# Altium integrated library TI Memory EPROM.IntLib: 21 symbols
Pins are listed as number, name and electrical type; pins without a type are passive.

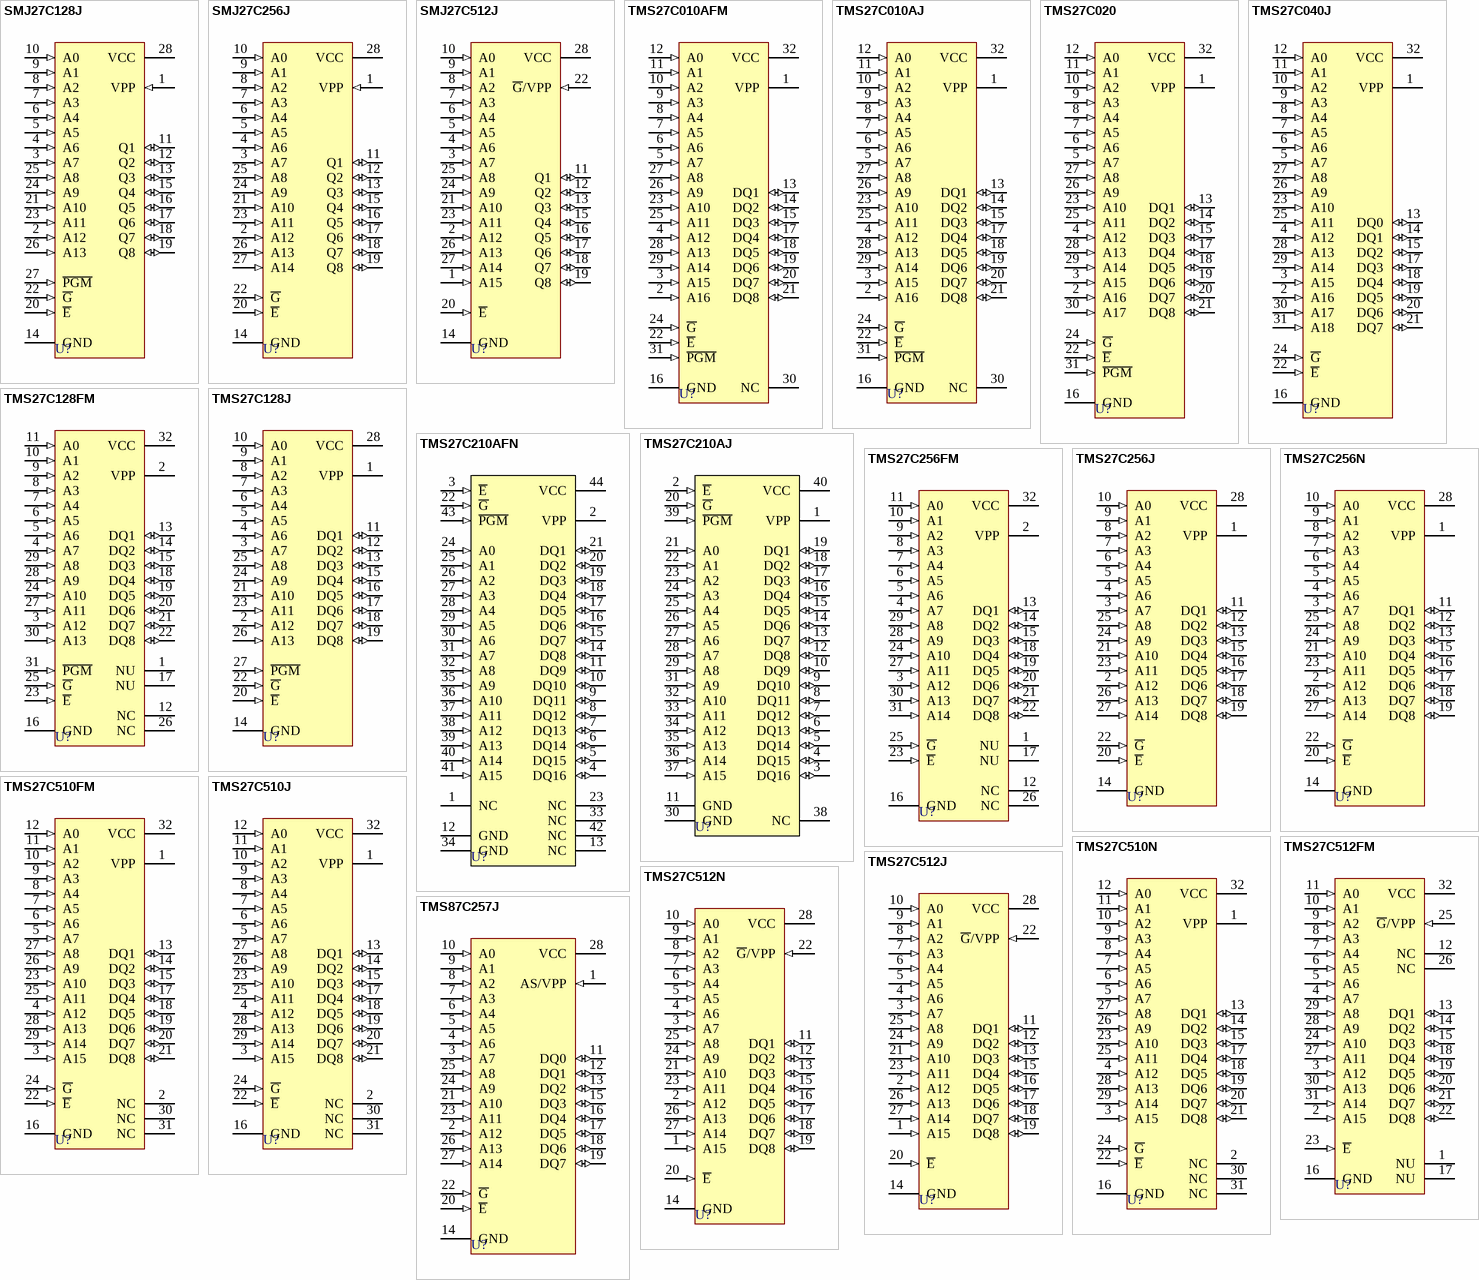
[diagram p0: symbols SMJ27C128J to TMS87C257J]

## SMJ27C128J
designator U?
131 072-Bit UV EPROM; Published: 15-Apr-2002; LatestRevisionDate: 08-Jul-2005; LatestRevisionNote: Stylized 3D Model Added.; DatasheetVersion: Jan-1991; PackageVersion: Nov-1997; PackageReference: J028; Publisher: Altium Limited; PackageDescription: DIP; 28 Leads; Row Spacing 15.24 mm; Pitch 2.54 mm; ComponentLink1Description: Manufacturer Link; ComponentLink1URL: http://www.ti.com/
footprint J028 (DIP; 28 Leads; Row Spacing 15.24 mm; Pitch 2.54 mm)
3D model J028 (DIP; 28 Leads; Row Spacing 15.24 mm; Pitch 2.54 mm)
pins: 1 VPP (in), 2 A12 (in), 3 A7 (in), 4 A6 (in), 5 A5 (in), 6 A4 (in), 7 A3 (in), 8 A2 (in), 9 A1 (in), 10 A0 (in), 11 Q1 (io), 12 Q2 (io), 13 Q3 (io), 14 GND (power), 15 Q4 (io), 16 Q5 (io), 17 Q6 (io), 18 Q7 (io), 19 Q8 (io), 20 ~{E} (in), 21 A10 (in), 22 ~{G} (in), 23 A11 (in), 24 A9 (in), 25 A8 (in), 26 A13 (in), 27 ~{PGM} (in), 28 VCC (power)

## SMJ27C256J
designator U?
262 144-Bit UV EPROM; Published: 15-Apr-2002; LatestRevisionDate: 08-Jul-2005; LatestRevisionNote: Stylized 3D Model Added.; DatasheetVersion: Jan-1991; PackageVersion: Nov-1997; PackageReference: J028; Publisher: Altium Limited; PackageDescription: DIP; 28 Leads; Row Spacing 15.24 mm; Pitch 2.54 mm; ComponentLink1Description: Manufacturer Link; ComponentLink1URL: http://www.ti.com/
footprint J028 (DIP; 28 Leads; Row Spacing 15.24 mm; Pitch 2.54 mm)
3D model J028 (DIP; 28 Leads; Row Spacing 15.24 mm; Pitch 2.54 mm)
pins: 1 VPP (in), 2 A12 (in), 3 A7 (in), 4 A6 (in), 5 A5 (in), 6 A4 (in), 7 A3 (in), 8 A2 (in), 9 A1 (in), 10 A0 (in), 11 Q1 (io), 12 Q2 (io), 13 Q3 (io), 14 GND (power), 15 Q4 (io), 16 Q5 (io), 17 Q6 (io), 18 Q7 (io), 19 Q8 (io), 20 ~{E} (in), 21 A10 (in), 22 ~{G} (in), 23 A11 (in), 24 A9 (in), 25 A8 (in), 26 A13 (in), 27 A14 (in), 28 VCC (power)

## SMJ27C512J
designator U?
524 288-Bit UV EPROM; Published: 15-Apr-2002; LatestRevisionDate: 08-Jul-2005; LatestRevisionNote: Stylized 3D Model Added.; DatasheetVersion: Jan-1991; PackageVersion: Nov-1997; PackageReference: J028; Publisher: Altium Limited; PackageDescription: DIP; 28 Leads; Row Spacing 15.24 mm; Pitch 2.54 mm; ComponentLink1Description: Manufacturer Link; ComponentLink1URL: http://www.ti.com/
footprint J028 (DIP; 28 Leads; Row Spacing 15.24 mm; Pitch 2.54 mm)
3D model J028 (DIP; 28 Leads; Row Spacing 15.24 mm; Pitch 2.54 mm)
pins: 1 A15 (in), 2 A12 (in), 3 A7 (in), 4 A6 (in), 5 A5 (in), 6 A4 (in), 7 A3 (in), 8 A2 (in), 9 A1 (in), 10 A0 (in), 11 Q1 (io), 12 Q2 (io), 13 Q3 (io), 14 GND (power), 15 Q4 (io), 16 Q5 (io), 17 Q6 (io), 18 Q7 (io), 19 Q8 (io), 20 ~{E} (in), 21 A10 (in), 22 ~{G}/VPP (in), 23 A11 (in), 24 A9 (in), 25 A8 (in), 26 A13 (in), 27 A14 (in), 28 VCC (power)

## TMS27C010AFM
designator U?
1 048 576-Bit UV EPROM; Published: 15-Apr-2002; LatestRevisionDate: 08-Jul-2005; LatestRevisionNote: Stylized 3D Model Added.; DatasheetVersion: Nov-1990; PackageVersion: 1991; PackageReference: FM32; Publisher: Altium Limited; PackageDescription: Leaded Chip Carrier; 32 Leads; Body 11.4 x 14 mm; ComponentLink1Description: Manufacturer Link; ComponentLink1URL: http://www.ti.com/
footprint FM32 (Leaded Chip Carrier; 32 Leads; Body 11.4 x 14 mm)
3D model TMS27C010A-FM32 (Leaded Chip Carrier; 32 Leads; Body 11.4 x 14 mm)
pins: 1 VPP (power), 2 A16 (in), 3 A15 (in), 4 A12 (in), 5 A7 (in), 6 A6 (in), 7 A5 (in), 8 A4 (in), 9 A3 (in), 10 A2 (in), 11 A1 (in), 12 A0 (in), 13 DQ1 (io), 14 DQ2 (io), 15 DQ3 (io), 16 GND (power), 17 DQ4 (io), 18 DQ5 (io), 19 DQ6 (io), 20 DQ7 (io), 21 DQ8 (io), 22 ~{E} (in), 23 A10 (in), 24 ~{G} (in), 25 A11 (in), 26 A9 (in), 27 A8 (in), 28 A13 (in), 29 A14 (in), 30 NC, 31 ~{PGM} (in), 32 VCC (power)

## TMS27C010AJ
designator U?
1 048 576-Bit UV EPROM; Published: 15-Apr-2002; LatestRevisionDate: 08-Jul-2005; LatestRevisionNote: Stylized 3D Model Added.; DatasheetVersion: Nov-1990; PackageVersion: Nov-1997; PackageReference: J032; Publisher: Altium Limited; PackageDescription: DIP; 32 Leads; Row Spacing 15.24 mm; Pitch 2.54 mm; ComponentLink1Description: Manufacturer Link; ComponentLink1URL: http://www.ti.com/
footprint J032 (DIP; 32 Leads; Row Spacing 15.24 mm; Pitch 2.54 mm)
3D model J032 (DIP; 32 Leads; Row Spacing 15.24 mm; Pitch 2.54 mm)
pins: 1 VPP (power), 2 A16 (in), 3 A15 (in), 4 A12 (in), 5 A7 (in), 6 A6 (in), 7 A5 (in), 8 A4 (in), 9 A3 (in), 10 A2 (in), 11 A1 (in), 12 A0 (in), 13 DQ1 (io), 14 DQ2 (io), 15 DQ3 (io), 16 GND (power), 17 DQ4 (io), 18 DQ5 (io), 19 DQ6 (io), 20 DQ7 (io), 21 DQ8 (io), 22 ~{E} (in), 23 A10 (in), 24 ~{G} (in), 25 A11 (in), 26 A9 (in), 27 A8 (in), 28 A13 (in), 29 A14 (in), 30 NC, 31 ~{PGM} (in), 32 VCC (power)

## TMS27C020
designator U?
2 097 152-Bit UV EPROM; Published: 15-Apr-2002; LatestRevisionDate: 08-Jul-2005; LatestRevisionNote: Stylized 3D Model Added.; DatasheetVersion: Nov-1990; PackageVersion: Nov-1997; PackageReference: J032; Publisher: Altium Limited; PackageDescription: DIP; 32 Leads; Row Spacing 15.24 mm; Pitch 2.54 mm; ComponentLink1Description: Manufacturer Link; ComponentLink1URL: http://www.ti.com/
footprint J032 (DIP; 32 Leads; Row Spacing 15.24 mm; Pitch 2.54 mm)
3D model J032 (DIP; 32 Leads; Row Spacing 15.24 mm; Pitch 2.54 mm)
pins: 1 VPP (power), 2 A16 (in), 3 A15 (in), 4 A12 (in), 5 A7 (in), 6 A6 (in), 7 A5 (in), 8 A4 (in), 9 A3 (in), 10 A2 (in), 11 A1 (in), 12 A0 (in), 13 DQ1 (io), 14 DQ2 (io), 15 DQ3 (io), 16 GND (power), 17 DQ4 (io), 18 DQ5 (io), 19 DQ6 (io), 20 DQ7 (io), 21 DQ8 (io), 22 ~{E} (in), 23 A10 (in), 24 ~{G} (in), 25 A11 (in), 26 A9 (in), 27 A8 (in), 28 A13 (in), 29 A14 (in), 30 A17 (in), 31 ~{PGM} (in), 32 VCC (power)

## TMS27C040J
designator U?
4 194 304-Bit UV EPROM; Published: 15-Apr-2002; LatestRevisionDate: 08-Jul-2005; LatestRevisionNote: Stylized 3D Model Added.; DatasheetVersion: Nov-1990; PackageVersion: Nov-1997; PackageReference: J032; Publisher: Altium Limited; PackageDescription: DIP; 32 Leads; Row Spacing 15.24 mm; Pitch 2.54 mm; ComponentLink1Description: Manufacturer Link; ComponentLink1URL: http://www.ti.com/
footprint J032 (DIP; 32 Leads; Row Spacing 15.24 mm; Pitch 2.54 mm)
3D model J032 (DIP; 32 Leads; Row Spacing 15.24 mm; Pitch 2.54 mm)
pins: 1 VPP (power), 2 A16 (in), 3 A15 (in), 4 A12 (in), 5 A7 (in), 6 A6 (in), 7 A5 (in), 8 A4 (in), 9 A3 (in), 10 A2 (in), 11 A1 (in), 12 A0 (in), 13 DQ0 (io), 14 DQ1 (io), 15 DQ2 (io), 16 GND (power), 17 DQ3 (io), 18 DQ4 (io), 19 DQ5 (io), 20 DQ6 (io), 21 DQ7 (io), 22 ~{E} (in), 23 A10 (in), 24 ~{G} (in), 25 A11 (in), 26 A9 (in), 27 A8 (in), 28 A13 (in), 29 A14 (in), 30 A17 (in), 31 A18 (in), 32 VCC (power)

## TMS27C128FM
designator U?
131 072-Bit UV EPROM; Note: Pins 1 & 17 should not make any external connection; Published: 15-Apr-2002; LatestRevisionDate: 08-Jul-2005; LatestRevisionNote: Stylized 3D Model Added.; DatasheetVersion: Jan-1991; PackageVersion: 1991; PackageReference: FM32; Publisher: Altium Limited; PackageDescription: Leaded Chip Carrier; 32 Leads; Body 11.4 x 14 mm; ComponentLink1Description: Manufacturer Link; ComponentLink1URL: http://www.ti.com/
footprint FM32 (Leaded Chip Carrier; 32 Leads; Body 11.4 x 14 mm)
3D model TMS27C128-FM32 (Leaded Chip Carrier; 32 Leads; Body 11.4 x 14 mm)
pins: 1 NU, 2 VPP (power), 3 A12 (in), 4 A7 (in), 5 A6 (in), 6 A5 (in), 7 A4 (in), 8 A3 (in), 9 A2 (in), 10 A1 (in), 11 A0 (in), 12 NC, 13 DQ1 (io), 14 DQ2 (io), 15 DQ3 (io), 16 GND (power), 17 NU, 18 DQ4 (io), 19 DQ5 (io), 20 DQ6 (io), 21 DQ7 (io), 22 DQ8 (io), 23 ~{E} (in), 24 A10 (in), 25 ~{G} (in), 26 NC, 27 A11 (in), 28 A9 (in), 29 A8 (in), 30 A13 (in), 31 ~{PGM} (in), 32 VCC (power)

## TMS27C128J
designator U?
131 072-Bit UV EPROM; Published: 15-Apr-2002; LatestRevisionDate: 08-Jul-2005; LatestRevisionNote: Stylized 3D Model Added.; DatasheetVersion: Jan-1991; PackageVersion: Nov-1997; PackageReference: J028; Publisher: Altium Limited; PackageDescription: DIP; 28 Leads; Row Spacing 15.24 mm; Pitch 2.54 mm; ComponentLink1Description: Manufacturer Link; ComponentLink1URL: http://www.ti.com/
footprint J028 (DIP; 28 Leads; Row Spacing 15.24 mm; Pitch 2.54 mm)
3D model J028 (DIP; 28 Leads; Row Spacing 15.24 mm; Pitch 2.54 mm)
pins: 1 VPP (power), 2 A12 (in), 3 A7 (in), 4 A6 (in), 5 A5 (in), 6 A4 (in), 7 A3 (in), 8 A2 (in), 9 A1 (in), 10 A0 (in), 11 DQ1 (io), 12 DQ2 (io), 13 DQ3 (io), 14 GND (power), 15 DQ4 (io), 16 DQ5 (io), 17 DQ6 (io), 18 DQ7 (io), 19 DQ8 (io), 20 ~{E} (in), 21 A10 (in), 22 ~{G} (in), 23 A11 (in), 24 A9 (in), 25 A8 (in), 26 A13 (in), 27 ~{PGM} (in), 28 VCC (power)

## TMS27C210AFN
designator U?
1 048 576-Bit UV EPROM; Published: 15-Apr-2002; LatestRevisionDate: 13-Apr-2006; LatestRevisionNote: IPC-7351 Footprint Added.; DatasheetVersion: Nov-1990; PackageVersion: Oct-1994; PackageReference: FN044; Publisher: Altium Limited; PackageDescription: 44-Pin Leaded Chip Carrier 1.27 mm Pitch; Code_IPC: PLCC-44; ComponentLink1Description: Manufacturer Link; ComponentLink1URL: http://www.ti.com/
footprint FN044_N (Leaded Chip Carrier, 44-Leads, Body 16.6x16.6mm, Pitch 1.27mm, IPC Medium Density)
footprint FN044_L (Leaded Chip Carrier, 44-Leads, Body 16.6x16.6mm, Pitch 1.27mm, IPC High Density)
footprint FN044_M (Leaded Chip Carrier, 44-Leads, Body 16.6x16.6mm, Pitch 1.27mm, IPC Low Density)
3D model TMS27C210A-FN044 (44-Pin Leaded Chip Carrier 1.27 mm Pitch)
pins: 1 NC, 2 VPP (power), 3 ~{E} (in), 4 DQ16 (io), 5 DQ15 (io), 6 DQ14 (io), 7 DQ13 (io), 8 DQ12 (io), 9 DQ11 (io), 10 DQ10 (io), 11 DQ9 (io), 12 GND (power), 13 NC, 14 DQ8 (io), 15 DQ7 (io), 16 DQ6 (io), 17 DQ5 (io), 18 DQ4 (io), 19 DQ3 (io), 20 DQ2 (io), 21 DQ1 (io), 22 ~{G} (in), 23 NC, 24 A0 (in), 25 A1 (in), 26 A2 (in), 27 A3 (in), 28 A4 (in), 29 A5 (in), 30 A6 (in), 31 A7 (in), 32 A8 (in), 33 NC, 34 GND (power), 35 A9 (in), 36 A10 (in), 37 A11 (in), 38 A12 (in), 39 A13 (in), 40 A14 (in), 41 A15 (in), 42 NC, 43 ~{PGM} (in), 44 VCC (power)

## TMS27C210AJ
designator U?
1 048 576-Bit UV EPROM; Note: Pins 11 & 30 should be connected externally to ground.; Published: 15-Apr-2002; LatestRevisionDate: 08-Jul-2005; LatestRevisionNote: Stylized 3D Model Added.; DatasheetVersion: Nov-1990; PackageVersion: Nov-1997; PackageReference: J040; Publisher: Altium Limited; PackageDescription: DIP; 40 Leads; Row Spacing 15.24 mm; Pitch 2.54 mm; ComponentLink1Description: Manufacturer Link; ComponentLink1URL: http://www.ti.com/
footprint J040 (DIP; 40 Leads; Row Spacing 15.24 mm; Pitch 2.54 mm)
3D model J040 (DIP; 40 Leads; Row Spacing 15.24 mm; Pitch 2.54 mm)
pins: 1 VPP (power), 2 ~{E} (in), 3 DQ16 (io), 4 DQ15 (io), 5 DQ14 (io), 6 DQ13 (io), 7 DQ12 (io), 8 DQ11 (io), 9 DQ10 (io), 10 DQ9 (io), 11 GND (power), 12 DQ8 (io), 13 DQ7 (io), 14 DQ6 (io), 15 DQ5 (io), 16 DQ4 (io), 17 DQ3 (io), 18 DQ2 (io), 19 DQ1 (io), 20 ~{G} (in), 21 A0 (in), 22 A1 (in), 23 A2 (in), 24 A3 (in), 25 A4 (in), 26 A5 (in), 27 A6 (in), 28 A7 (in), 29 A8 (in), 30 GND (power), 31 A9 (in), 32 A10 (in), 33 A11 (in), 34 A12 (in), 35 A13 (in), 36 A14 (in), 37 A15 (in), 38 NC, 39 ~{PGM} (in), 40 VCC (power)

## TMS27C256FM
designator U?
262 144-Bit UV EPROM; Note: Pins 1 & 17 should not make any external connection; Published: 15-Apr-2002; LatestRevisionDate: 08-Jul-2005; LatestRevisionNote: Stylized 3D Model Added.; DatasheetVersion: Jan-1991; PackageVersion: 1991; PackageReference: FM32; Publisher: Altium Limited; PackageDescription: Leaded Chip Carrier; 32 Leads; Body 11.4 x 14 mm; ComponentLink1Description: Manufacturer Link; ComponentLink1URL: http://www.ti.com/
footprint FM32 (Leaded Chip Carrier; 32 Leads; Body 11.4 x 14 mm)
3D model TMS27C256-FM32 (Leaded Chip Carrier; 32 Leads; Body 11.4 x 14 mm)
pins: 1 NU, 2 VPP (power), 3 A12 (in), 4 A7 (in), 5 A6 (in), 6 A5 (in), 7 A4 (in), 8 A3 (in), 9 A2 (in), 10 A1 (in), 11 A0 (in), 12 NC, 13 DQ1 (io), 14 DQ2 (io), 15 DQ3 (io), 16 GND (power), 17 NU, 18 DQ4 (io), 19 DQ5 (io), 20 DQ6 (io), 21 DQ7 (io), 22 DQ8 (io), 23 ~{E} (in), 24 A10 (in), 25 ~{G} (in), 26 NC, 27 A11 (in), 28 A9 (in), 29 A8 (in), 30 A13 (in), 31 A14 (in), 32 VCC (power)

## TMS27C256J
designator U?
262 144-Bit UV EPROM; Published: 15-Apr-2002; LatestRevisionDate: 08-Jul-2005; LatestRevisionNote: Stylized 3D Model Added.; DatasheetVersion: Jan-1991; PackageVersion: Nov-1997; PackageReference: J028; Publisher: Altium Limited; PackageDescription: DIP; 28 Leads; Row Spacing 15.24 mm; Pitch 2.54 mm; ComponentLink1Description: Manufacturer Link; ComponentLink1URL: http://www.ti.com/
footprint J028 (DIP; 28 Leads; Row Spacing 15.24 mm; Pitch 2.54 mm)
3D model J028 (DIP; 28 Leads; Row Spacing 15.24 mm; Pitch 2.54 mm)
pins: 1 VPP (power), 2 A12 (in), 3 A7 (in), 4 A6 (in), 5 A5 (in), 6 A4 (in), 7 A3 (in), 8 A2 (in), 9 A1 (in), 10 A0 (in), 11 DQ1 (io), 12 DQ2 (io), 13 DQ3 (io), 14 GND (power), 15 DQ4 (io), 16 DQ5 (io), 17 DQ6 (io), 18 DQ7 (io), 19 DQ8 (io), 20 ~{E} (in), 21 A10 (in), 22 ~{G} (in), 23 A11 (in), 24 A9 (in), 25 A8 (in), 26 A13 (in), 27 A14 (in), 28 VCC (power)

## TMS27C256N
designator U?
262 144-Bit UV EPROM; Published: 15-Apr-2002; LatestRevisionDate: 08-Jul-2005; LatestRevisionNote: Stylized 3D Model Added.; DatasheetVersion: Jan-1991; PackageVersion: Oct-1994; PackageReference: N028; Publisher: Altium Limited; PackageDescription: DIP; 28 Leads; Row Spacing 15.24 mm; Pitch 2.54 mm; ComponentLink1Description: Manufacturer Link; ComponentLink1URL: http://www.ti.com/
footprint N028 (DIP; 28 Leads; Row Spacing 15.24 mm; Pitch 2.54 mm)
3D model N028 (DIP; 28 Leads; Row Spacing 15.24 mm; Pitch 2.54 mm)
pins: 1 VPP (power), 2 A12 (in), 3 A7 (in), 4 A6 (in), 5 A5 (in), 6 A4 (in), 7 A3 (in), 8 A2 (in), 9 A1 (in), 10 A0 (in), 11 DQ1 (io), 12 DQ2 (io), 13 DQ3 (io), 14 GND (power), 15 DQ4 (io), 16 DQ5 (io), 17 DQ6 (io), 18 DQ7 (io), 19 DQ8 (io), 20 ~{E} (in), 21 A10 (in), 22 ~{G} (in), 23 A11 (in), 24 A9 (in), 25 A8 (in), 26 A13 (in), 27 A14 (in), 28 VCC (power)

## TMS27C510FM
designator U?
524 288-Bit EPROM; Published: 15-Apr-2002; LatestRevisionDate: 08-Jul-2005; LatestRevisionNote: Stylized 3D Model Added.; DatasheetVersion: Aug-1990; PackageVersion: 1991; PackageReference: FM32; Publisher: Altium Limited; PackageDescription: Leaded Chip Carrier; 32 Leads; Body 11.4 x 14 mm; ComponentLink1Description: Manufacturer Link; ComponentLink1URL: http://www.ti.com/
footprint FM32 (Leaded Chip Carrier; 32 Leads; Body 11.4 x 14 mm)
3D model TMS27C510-FM32 (Leaded Chip Carrier; 32 Leads; Body 11.4 x 14 mm)
pins: 1 VPP (power), 2 NC, 3 A15 (in), 4 A12 (in), 5 A7 (in), 6 A6 (in), 7 A5 (in), 8 A4 (in), 9 A3 (in), 10 A2 (in), 11 A1 (in), 12 A0 (in), 13 DQ1 (io), 14 DQ2 (io), 15 DQ3 (io), 16 GND (power), 17 DQ4 (io), 18 DQ5 (io), 19 DQ6 (io), 20 DQ7 (io), 21 DQ8 (io), 22 ~{E} (in), 23 A10 (in), 24 ~{G} (in), 25 A11 (in), 26 A9 (in), 27 A8 (in), 28 A13 (in), 29 A14 (in), 30 NC, 31 NC, 32 VCC (power)

## TMS27C510J
designator U?
524 288-Bit EPROM; Published: 15-Apr-2002; LatestRevisionDate: 08-Jul-2005; LatestRevisionNote: Stylized 3D Model Added.; DatasheetVersion: Aug-1990; PackageVersion: Nov-1997; PackageReference: J032; Publisher: Altium Limited; PackageDescription: DIP; 32 Leads; Row Spacing 15.24 mm; Pitch 2.54 mm; ComponentLink1Description: Manufacturer Link; ComponentLink1URL: http://www.ti.com/
footprint J032 (DIP; 32 Leads; Row Spacing 15.24 mm; Pitch 2.54 mm)
3D model J032 (DIP; 32 Leads; Row Spacing 15.24 mm; Pitch 2.54 mm)
pins: 1 VPP (power), 2 NC, 3 A15 (in), 4 A12 (in), 5 A7 (in), 6 A6 (in), 7 A5 (in), 8 A4 (in), 9 A3 (in), 10 A2 (in), 11 A1 (in), 12 A0 (in), 13 DQ1 (io), 14 DQ2 (io), 15 DQ3 (io), 16 GND (power), 17 DQ4 (io), 18 DQ5 (io), 19 DQ6 (io), 20 DQ7 (io), 21 DQ8 (io), 22 ~{E} (in), 23 A10 (in), 24 ~{G} (in), 25 A11 (in), 26 A9 (in), 27 A8 (in), 28 A13 (in), 29 A14 (in), 30 NC, 31 NC, 32 VCC (power)

## TMS27C510N
designator U?
524 288-Bit EPROM; Published: 15-Apr-2002; LatestRevisionDate: 08-Jul-2005; LatestRevisionNote: Stylized 3D Model Added.; DatasheetVersion: Aug-1990; PackageVersion: Oct-1994; PackageReference: N032; Publisher: Altium Limited; PackageDescription: DIP; 32 Leads; Row Spacing 15.24 mm; Pitch 2.54 mm; ComponentLink1Description: Manufacturer Link; ComponentLink1URL: http://www.ti.com/
footprint N032 (DIP; 32 Leads; Row Spacing 15.24 mm; Pitch 2.54 mm)
3D model J032 (DIP; 32 Leads; Row Spacing 15.24 mm; Pitch 2.54 mm)
pins: 1 VPP (power), 2 NC, 3 A15 (in), 4 A12 (in), 5 A7 (in), 6 A6 (in), 7 A5 (in), 8 A4 (in), 9 A3 (in), 10 A2 (in), 11 A1 (in), 12 A0 (in), 13 DQ1 (io), 14 DQ2 (io), 15 DQ3 (io), 16 GND (power), 17 DQ4 (io), 18 DQ5 (io), 19 DQ6 (io), 20 DQ7 (io), 21 DQ8 (io), 22 ~{E} (in), 23 A10 (in), 24 ~{G} (in), 25 A11 (in), 26 A9 (in), 27 A8 (in), 28 A13 (in), 29 A14 (in), 30 NC, 31 NC, 32 VCC (power)

## TMS27C512FM
designator U?
524 288-Bit UV EPROM; Note: Pins 1 & 17 should not make any external connection; Published: 15-Apr-2002; LatestRevisionDate: 08-Jul-2005; LatestRevisionNote: Stylized 3D Model Added.; DatasheetVersion: Oct-1990; PackageVersion: 1991; PackageReference: FM32; Publisher: Altium Limited; PackageDescription: Leaded Chip Carrier; 32 Leads; Body 11.4 x 14 mm; ComponentLink1Description: Manufacturer Link; ComponentLink1URL: http://www.ti.com/
footprint FM32 (Leaded Chip Carrier; 32 Leads; Body 11.4 x 14 mm)
3D model TMS27C512-FM32 (Leaded Chip Carrier; 32 Leads; Body 11.4 x 14 mm)
pins: 1 NU, 2 A15 (in), 3 A12 (in), 4 A7 (in), 5 A6 (in), 6 A5 (in), 7 A4 (in), 8 A3 (in), 9 A2 (in), 10 A1 (in), 11 A0 (in), 12 NC, 13 DQ1 (io), 14 DQ2 (io), 15 DQ3 (io), 16 GND (power), 17 NU, 18 DQ4 (io), 19 DQ5 (io), 20 DQ6 (io), 21 DQ7 (io), 22 DQ8 (io), 23 ~{E} (in), 24 A10 (in), 25 ~{G}/VPP (in), 26 NC, 27 A11 (in), 28 A9 (in), 29 A8 (in), 30 A13 (in), 31 A14 (in), 32 VCC (power)

## TMS27C512J
designator U?
524 288-Bit UV EPROM; Published: 15-Apr-2002; LatestRevisionDate: 08-Jul-2005; LatestRevisionNote: Stylized 3D Model Added.; DatasheetVersion: Oct-1990; PackageVersion: Nov-1997; PackageReference: J028; Publisher: Altium Limited; PackageDescription: DIP; 28 Leads; Row Spacing 15.24 mm; Pitch 2.54 mm; ComponentLink1Description: Manufacturer Link; ComponentLink1URL: http://www.ti.com/
footprint J028 (DIP; 28 Leads; Row Spacing 15.24 mm; Pitch 2.54 mm)
3D model J028 (DIP; 28 Leads; Row Spacing 15.24 mm; Pitch 2.54 mm)
pins: 1 A15 (in), 2 A12 (in), 3 A7 (in), 4 A6 (in), 5 A5 (in), 6 A4 (in), 7 A3 (in), 8 A2 (in), 9 A1 (in), 10 A0 (in), 11 DQ1 (io), 12 DQ2 (io), 13 DQ3 (io), 14 GND (power), 15 DQ4 (io), 16 DQ5 (io), 17 DQ6 (io), 18 DQ7 (io), 19 DQ8 (io), 20 ~{E} (in), 21 A10 (in), 22 ~{G}/VPP (in), 23 A11 (in), 24 A9 (in), 25 A8 (in), 26 A13 (in), 27 A14 (in), 28 VCC (power)

## TMS27C512N
designator U?
524 288-Bit UV EPROM; Published: 15-Apr-2002; LatestRevisionDate: 08-Jul-2005; LatestRevisionNote: Stylized 3D Model Added.; DatasheetVersion: Oct-1990; PackageVersion: Oct-1994; PackageReference: N028; Publisher: Altium Limited; PackageDescription: DIP; 28 Leads; Row Spacing 15.24 mm; Pitch 2.54 mm; ComponentLink1Description: Manufacturer Link; ComponentLink1URL: http://www.ti.com/
footprint N028 (DIP; 28 Leads; Row Spacing 15.24 mm; Pitch 2.54 mm)
3D model N028 (DIP; 28 Leads; Row Spacing 15.24 mm; Pitch 2.54 mm)
pins: 1 A15 (in), 2 A12 (in), 3 A7 (in), 4 A6 (in), 5 A5 (in), 6 A4 (in), 7 A3 (in), 8 A2 (in), 9 A1 (in), 10 A0 (in), 11 DQ1 (io), 12 DQ2 (io), 13 DQ3 (io), 14 GND (power), 15 DQ4 (io), 16 DQ5 (io), 17 DQ6 (io), 18 DQ7 (io), 19 DQ8 (io), 20 ~{E} (in), 21 A10 (in), 22 ~{G}/VPP (in), 23 A11 (in), 24 A9 (in), 25 A8 (in), 26 A13 (in), 27 A14 (in), 28 VCC (power)

## TMS87C257J
designator U?
262 144-Bit Latched UV EPROM; Published: 15-Apr-2002; LatestRevisionDate: 08-Jul-2005; LatestRevisionNote: Stylized 3D Model Added.; DatasheetVersion: Nov-1990; PackageVersion: Nov-1997; PackageReference: J028; Publisher: Altium Limited; PackageDescription: DIP; 28 Leads; Row Spacing 15.24 mm; Pitch 2.54 mm; ComponentLink1Description: Manufacturer Link; ComponentLink1URL: http://www.ti.com/
footprint J028 (DIP; 28 Leads; Row Spacing 15.24 mm; Pitch 2.54 mm)
3D model J028 (DIP; 28 Leads; Row Spacing 15.24 mm; Pitch 2.54 mm)
pins: 1 AS/VPP (in), 2 A12 (in), 3 A7 (in), 4 A6 (in), 5 A5 (in), 6 A4 (in), 7 A3 (in), 8 A2 (in), 9 A1 (in), 10 A0 (in), 11 DQ0 (io), 12 DQ1 (io), 13 DQ2 (io), 14 GND (power), 15 DQ3 (io), 16 DQ4 (io), 17 DQ5 (io), 18 DQ6 (io), 19 DQ7 (io), 20 ~{E} (in), 21 A10 (in), 22 ~{G} (in), 23 A11 (in), 24 A9 (in), 25 A8 (in), 26 A13 (in), 27 A14 (in), 28 VCC (power)